# EAGLE library part DS1338Z-33+ (library Strawson_Eagle_Lib)
I2C real-time clock with battery backup.
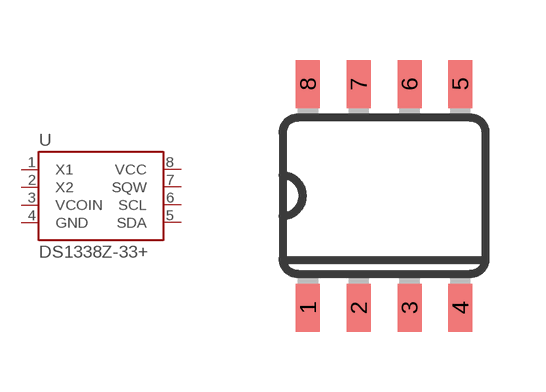
[diagram p5: symbol with the pads of SO08-TIGHT; footprint SO08-TIGHT]

Designator prefix -

## DS1338Z-33+SOIC-8  [SO08-TIGHT]
1  X1
2  X2
3  VCOIN
4  GND
5  SDA
6  SCL
7  SQW
8  VCC

## Footprint SO08-TIGHT (pad centres in mm)
smd 0.6 x 1.2: 1 -1.905,-2.8; 2 -0.635,-2.8; 3 0.635,-2.8; 4 1.905,-2.8; 5 1.905,2.8; 6 0.635,2.8; 7 -0.635,2.8; 8 -1.905,2.8